# EAGLE library part DS18B20 (library lpatiny)
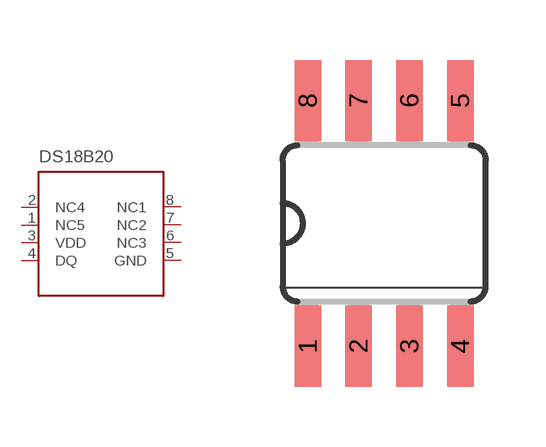
[diagram p23: symbol with the pads of SO8; footprint SO8]

Designator prefix -

## DS18B20  [SO8]
1  NC5  nc
2  NC4  nc
3  VDD  pwr
4  DQ
5  GND  pwr
6  NC3  nc
7  NC2  nc
8  NC1  nc

## Footprint SO8 (pad centres in mm)
smd 0.66 x 2.032: 1 -3.81,-3.073; 2 -2.54,-3.073; 3 -1.27,-3.073; 4 0,-3.073; 5 0,3.073; 6 -1.27,3.073; 7 -2.54,3.073; 8 -3.81,3.073